# Altium integrated library TI Amplifiers and Linear Special Function Amplifier.IntLib: 708 symbols (part 29 of 47)
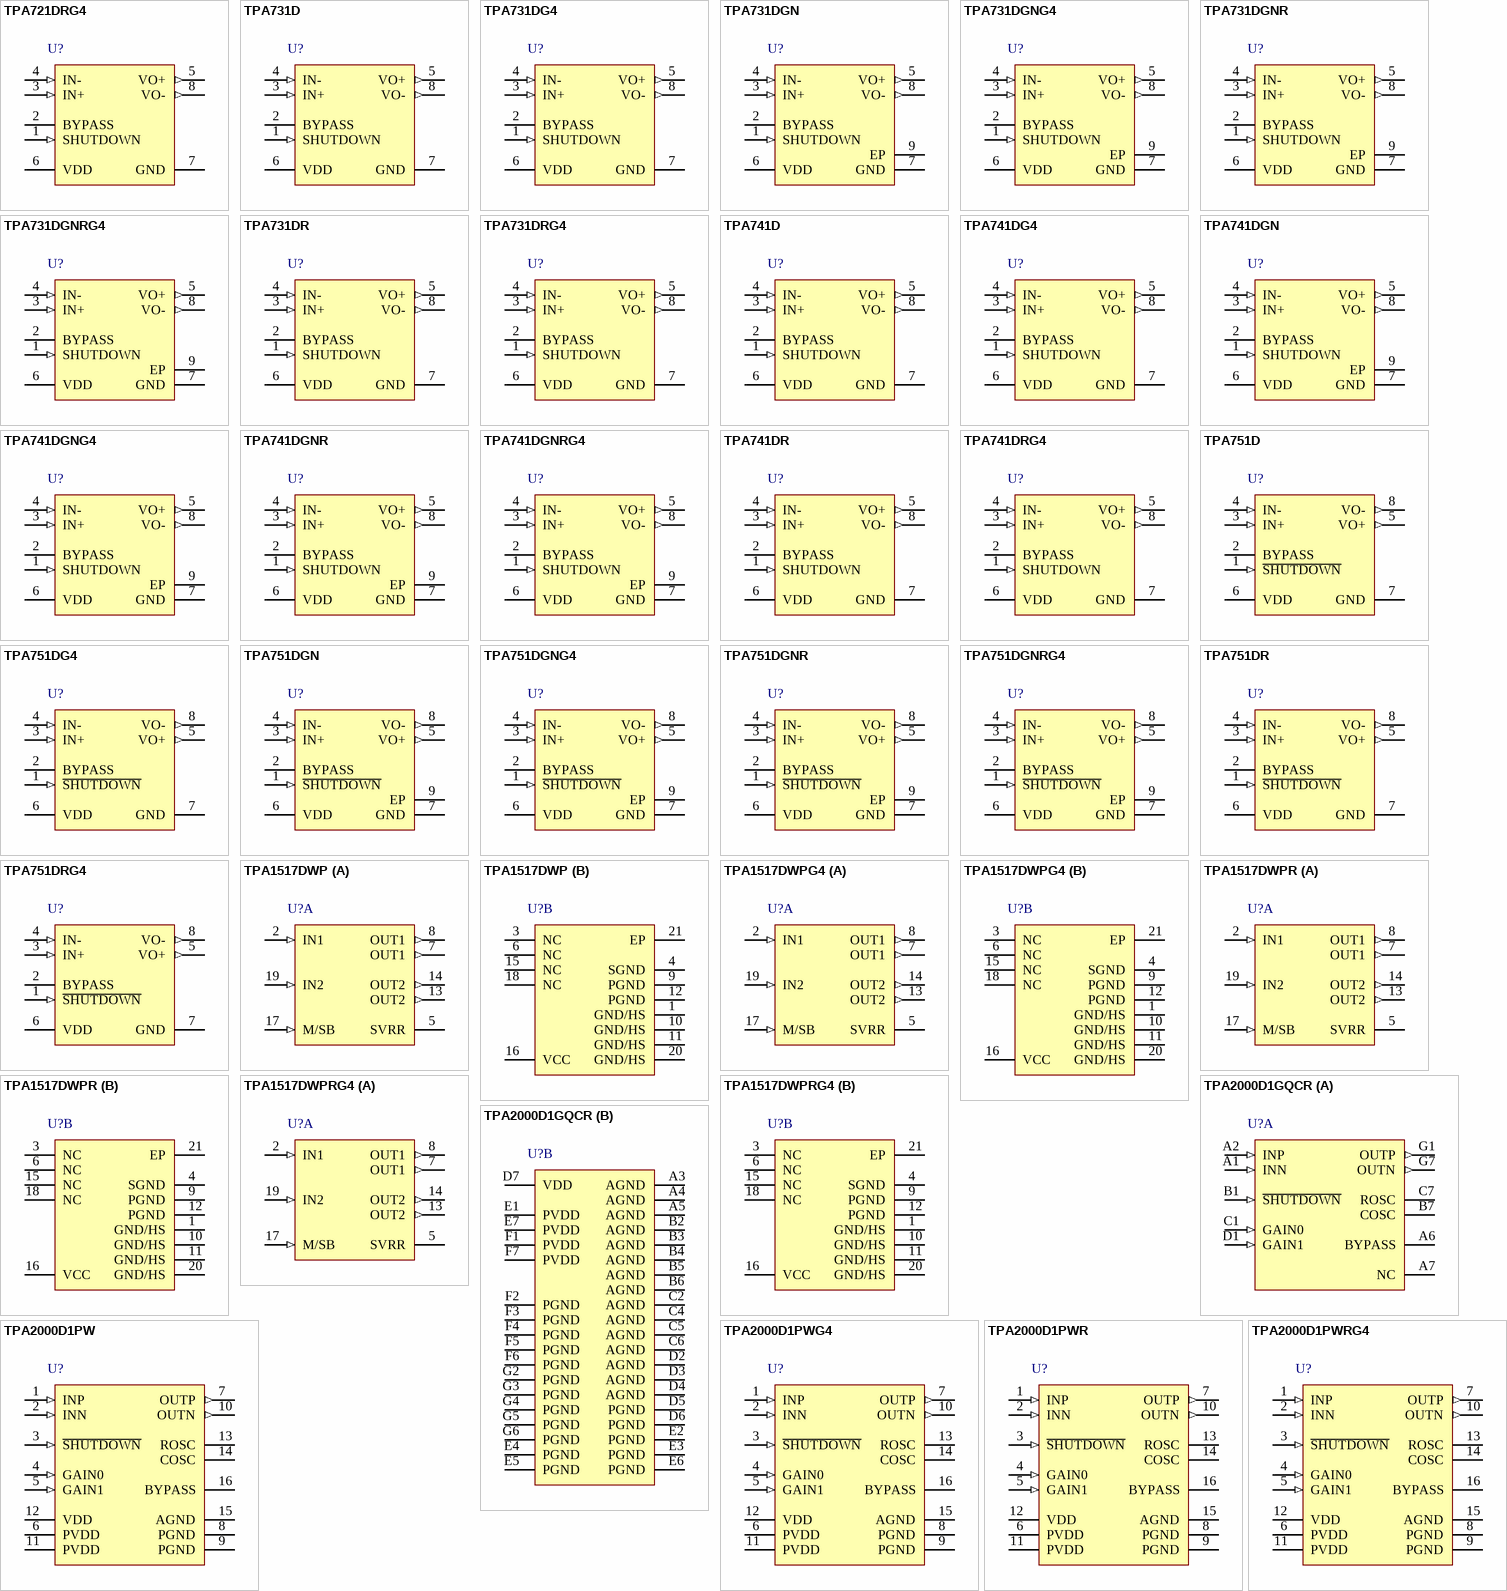
[diagram p67: symbols TPA721DRG4 to TPA2000D1PWRG4]

## TPA731DG4
designator U?
700-mW Mono, Differential Input, Class-AB Audio Amplifier with Active High Shutdown, -40 to 85 degC, 8-pin SOIC (D8), Green (RoHS & no Sb/Br); Manufacturer: Texas Instruments; PartNumber: TPA731DG4; Output Power(W): 0.25; PSRR(dB): 85; SubFamily: Dynamic Speaker; Supply Max(Max)(Volt): 5.5; Supply Min(Min)(Volt): 2.5; DatasheetVersion: SLOS315B; PackageVersion: 4040047-3/M, 06/2011; PackageReference: D8; PackageDescription: 8-Pin Plastic Small Outline, Body 4.9 x 3.9 mm, Pitch 1.27 mm; Supplier 1: Digi-Key; Supplier Part Number 1: TPA731DG4-ND; Supplier 2: Mouser; Supplier Part Number 2: 595-TPA731DG4; Eco-Plan: Green (RoHS & no Sb/Br); Speaker Amp Type: Class-AB; Speaker Channels: Mono; Mounting Technology: Surface Mount; Code_JEDEC: MS-012; ComponentLink1Description: Manufacturer URL; ComponentLink1URL: http://www.ti.com/; ComponentLink2Description: Datasheet; ComponentLink2URL: http://www.ti.com/general/docs/lit/getliterature.tsp?genericPartNumber=TPA731&fileType=pdf; ComponentLink3Description: Package Specification; ComponentLink3URL: http://www.ti.com/litv/pdf/msoi002j
footprint TI-D8_N (SOIC, 8-Leads, Body 5x4mm, Pitch 1.27mm, IPC Medium Density)
footprint TI-D8_L (SOIC, 8-Leads, Body 5x4mm, Pitch 1.27mm, IPC High Density)
footprint TI-D8_M (SOIC, 8-Leads, Body 5x4mm, Pitch 1.27mm, IPC Low Density)
pins: 1 SHUTDOWN (in) "SHUTDOWN places the entire device in shutdown mode when held high.", 2 BYPASS "BYPASS is the tap to the voltage divider for internal mid-supply bias. This terminal should be connected to a 0.1-uF to 2.2-uF capacitor when used as an audio amplifier.", 3 IN+ (in) "IN+ is the noninverting input. IN+ is typically tied to the BYPASS terminal.", 4 IN- (in) "IN- is the inverting input. IN- is typically used as the audio input terminal.", 5 VO+ (out) "VO+ is the positive BTL output.", 6 VDD (power) "VDD is the supply voltage terminal.", 7 GND (power) "GND is the ground connection.", 8 VO- (out) "VO- is the negative BTL output."

## TPA731DGN
designator U?
700-mW Mono, Differential Input, Class-AB Audio Amplifier with Active High Shutdown, -40 to 85 degC, 8-pin SOP (DGN8), Green (RoHS & no Sb/Br); Manufacturer: Texas Instruments; PartNumber: TPA731DGN; Output Power(W): 0.25; PSRR(dB): 85; SubFamily: Dynamic Speaker; Supply Max(Max)(Volt): 5.5; Supply Min(Min)(Volt): 2.5; DatasheetVersion: SLOS315B; PackageVersion: 4073271/F, 05/2011; PackageReference: DGN8-1760X1425TP; PackageDescription: 8-Pin Plastic Small Outline, Body 3 x 3 mm, Pitch 0.65 mm; Supplier 1: Digi-Key; Supplier Part Number 1: TPA731DGN-ND; Supplier 2: Mouser; Supplier Part Number 2: 595-TPA731DGN; Eco-Plan: Green (RoHS & no Sb/Br); Speaker Amp Type: Class-AB; Speaker Channels: Mono; Mounting Technology: Surface Mount; Code_JEDEC: MO-187; ComponentLink1Description: Manufacturer URL; ComponentLink1URL: http://www.ti.com/; ComponentLink2Description: Datasheet; ComponentLink2URL: http://www.ti.com/general/docs/lit/getliterature.tsp?genericPartNumber=TPA731&fileType=pdf; ComponentLink3Description: Package Specification; ComponentLink3URL: http://www.ti.com/litv/pdf/mpds046e
footprint TI-DGN8-1760X1425TP_N (SOP, 8-Leads, Body 3.1x3.1mm, Pitch 0.65mm, Thermal Pad 1.89x1.57mm, IPC Medium Density)
footprint TI-DGN8-1760X1425TP_L (SOP, 8-Leads, Body 3.1x3.1mm, Pitch 0.65mm, Thermal Pad 1.89x1.57mm, IPC High Density)
footprint TI-DGN8-1760X1425TP_M (SOP, 8-Leads, Body 3.1x3.1mm, Pitch 0.65mm, Thermal Pad 1.89x1.57mm, IPC Low Density)
pins: 1 SHUTDOWN (in) "SHUTDOWN places the entire device in shutdown mode when held high.", 2 BYPASS "BYPASS is the tap to the voltage divider for internal mid-supply bias.", 3 IN+ (in) "IN+ is the noninverting input. IN+ is typically tied to the BYPASS terminal.", 4 IN- (in) "IN- is the inverting input. IN- is typically used as the audio input terminal.", 5 VO+ (out) "VO+ is the positive BTL output.", 6 VDD (power) "VDD is the supply voltage terminal.", 7 GND (power) "GND is the ground connection.", 8 VO- (out) "VO- is the negative BTL output.", 9 EP

## TPA731DGNG4
designator U?
700-mW Mono, Differential Input, Class-AB Audio Amplifier with Active High Shutdown, -40 to 85 degC, 8-pin SOP (DGN8), Green (RoHS & no Sb/Br); Manufacturer: Texas Instruments; PartNumber: TPA731DGNG4; Output Power(W): 0.25; PSRR(dB): 85; SubFamily: Dynamic Speaker; Supply Max(Max)(Volt): 5.5; Supply Min(Min)(Volt): 2.5; DatasheetVersion: SLOS315B; PackageVersion: 4073271/F, 05/2011; PackageReference: DGN8-1760X1425TP; PackageDescription: 8-Pin Plastic Small Outline, Body 3 x 3 mm, Pitch 0.65 mm; Supplier 1: Digi-Key; Supplier Part Number 1: TPA731DGNG4-ND; Supplier 2: Mouser; Supplier Part Number 2: 595-TPA731DGNG4; Eco-Plan: Green (RoHS & no Sb/Br); Speaker Amp Type: Class-AB; Speaker Channels: Mono; Mounting Technology: Surface Mount; Code_JEDEC: MO-187; ComponentLink1Description: Manufacturer URL; ComponentLink1URL: http://www.ti.com/; ComponentLink2Description: Datasheet; ComponentLink2URL: http://www.ti.com/general/docs/lit/getliterature.tsp?genericPartNumber=TPA731&fileType=pdf; ComponentLink3Description: Package Specification; ComponentLink3URL: http://www.ti.com/litv/pdf/mpds046e
footprint TI-DGN8-1760X1425TP_N (SOP, 8-Leads, Body 3.1x3.1mm, Pitch 0.65mm, Thermal Pad 1.89x1.57mm, IPC Medium Density)
footprint TI-DGN8-1760X1425TP_L (SOP, 8-Leads, Body 3.1x3.1mm, Pitch 0.65mm, Thermal Pad 1.89x1.57mm, IPC High Density)
footprint TI-DGN8-1760X1425TP_M (SOP, 8-Leads, Body 3.1x3.1mm, Pitch 0.65mm, Thermal Pad 1.89x1.57mm, IPC Low Density)
pins: 1 SHUTDOWN (in) "SHUTDOWN places the entire device in shutdown mode when held high.", 2 BYPASS "BYPASS is the tap to the voltage divider for internal mid-supply bias.", 3 IN+ (in) "IN+ is the noninverting input. IN+ is typically tied to the BYPASS terminal.", 4 IN- (in) "IN- is the inverting input. IN- is typically used as the audio input terminal.", 5 VO+ (out) "VO+ is the positive BTL output.", 6 VDD (power) "VDD is the supply voltage terminal.", 7 GND (power) "GND is the ground connection.", 8 VO- (out) "VO- is the negative BTL output.", 9 EP

## TPA731DGNR
designator U?
700-mW Mono, Differential Input, Class-AB Audio Amplifier with Active High Shutdown, -40 to 85 degC, 8-pin SOP (DGN8), Green (RoHS & no Sb/Br); Manufacturer: Texas Instruments; PartNumber: TPA731DGNR; Output Power(W): 0.25; PSRR(dB): 85; SubFamily: Dynamic Speaker; Supply Max(Max)(Volt): 5.5; Supply Min(Min)(Volt): 2.5; DatasheetVersion: SLOS315B; PackageVersion: 4073271/F, 05/2011; PackageReference: DGN8-1760X1425TP; PackageDescription: 8-Pin Plastic Small Outline, Body 3 x 3 mm, Pitch 0.65 mm; Supplier 1: Digi-Key; Supplier Part Number 1: 296-7026-2-ND; Supplier 2: Digi-Key; Supplier Part Number 2: 296-7026-1-ND; Supplier 3: Digi-Key; Supplier Part Number 3: 296-7026-6-ND; Supplier 4: Mouser; Supplier Part Number 4: 595-TPA731DGNR; Eco-Plan: Green (RoHS & no Sb/Br); Speaker Amp Type: Class-AB; Speaker Channels: Mono; Mounting Technology: Surface Mount; Code_JEDEC: MO-187; ComponentLink1Description: Manufacturer URL; ComponentLink1URL: http://www.ti.com/; ComponentLink2Description: Datasheet; ComponentLink2URL: http://www.ti.com/general/docs/lit/getliterature.tsp?genericPartNumber=TPA731&fileType=pdf; ComponentLink3Description: Package Specification; ComponentLink3URL: http://www.ti.com/litv/pdf/mpds046e
footprint TI-DGN8-1760X1425TP_N (SOP, 8-Leads, Body 3.1x3.1mm, Pitch 0.65mm, Thermal Pad 1.89x1.57mm, IPC Medium Density)
footprint TI-DGN8-1760X1425TP_L (SOP, 8-Leads, Body 3.1x3.1mm, Pitch 0.65mm, Thermal Pad 1.89x1.57mm, IPC High Density)
footprint TI-DGN8-1760X1425TP_M (SOP, 8-Leads, Body 3.1x3.1mm, Pitch 0.65mm, Thermal Pad 1.89x1.57mm, IPC Low Density)
pins: 1 SHUTDOWN (in) "SHUTDOWN places the entire device in shutdown mode when held high.", 2 BYPASS "BYPASS is the tap to the voltage divider for internal mid-supply bias.", 3 IN+ (in) "IN+ is the noninverting input. IN+ is typically tied to the BYPASS terminal.", 4 IN- (in) "IN- is the inverting input. IN- is typically used as the audio input terminal.", 5 VO+ (out) "VO+ is the positive BTL output.", 6 VDD (power) "VDD is the supply voltage terminal.", 7 GND (power) "GND is the ground connection.", 8 VO- (out) "VO- is the negative BTL output.", 9 EP

## TPA731DGNRG4
designator U?
700-mW Mono, Differential Input, Class-AB Audio Amplifier with Active High Shutdown, -40 to 85 degC, 8-pin SOP (DGN8), Green (RoHS & no Sb/Br); Manufacturer: Texas Instruments; PartNumber: TPA731DGNRG4; Output Power(W): 0.25; PSRR(dB): 85; SubFamily: Dynamic Speaker; Supply Max(Max)(Volt): 5.5; Supply Min(Min)(Volt): 2.5; DatasheetVersion: SLOS315B; PackageVersion: 4073271/F, 05/2011; PackageReference: DGN8-1760X1425TP; PackageDescription: 8-Pin Plastic Small Outline, Body 3 x 3 mm, Pitch 0.65 mm; Supplier 1: Digi-Key; Supplier Part Number 1: TPA731DGNRG4-ND; Supplier 2: Mouser; Supplier Part Number 2: 595-TPA731DGNRG4; Eco-Plan: Green (RoHS & no Sb/Br); Speaker Amp Type: Class-AB; Speaker Channels: Mono; Mounting Technology: Surface Mount; Code_JEDEC: MO-187; ComponentLink1Description: Manufacturer URL; ComponentLink1URL: http://www.ti.com/; ComponentLink2Description: Datasheet; ComponentLink2URL: http://www.ti.com/general/docs/lit/getliterature.tsp?genericPartNumber=TPA731&fileType=pdf; ComponentLink3Description: Package Specification; ComponentLink3URL: http://www.ti.com/litv/pdf/mpds046e
footprint TI-DGN8-1760X1425TP_N (SOP, 8-Leads, Body 3.1x3.1mm, Pitch 0.65mm, Thermal Pad 1.89x1.57mm, IPC Medium Density)
footprint TI-DGN8-1760X1425TP_L (SOP, 8-Leads, Body 3.1x3.1mm, Pitch 0.65mm, Thermal Pad 1.89x1.57mm, IPC High Density)
footprint TI-DGN8-1760X1425TP_M (SOP, 8-Leads, Body 3.1x3.1mm, Pitch 0.65mm, Thermal Pad 1.89x1.57mm, IPC Low Density)
pins: 1 SHUTDOWN (in) "SHUTDOWN places the entire device in shutdown mode when held high.", 2 BYPASS "BYPASS is the tap to the voltage divider for internal mid-supply bias.", 3 IN+ (in) "IN+ is the noninverting input. IN+ is typically tied to the BYPASS terminal.", 4 IN- (in) "IN- is the inverting input. IN- is typically used as the audio input terminal.", 5 VO+ (out) "VO+ is the positive BTL output.", 6 VDD (power) "VDD is the supply voltage terminal.", 7 GND (power) "GND is the ground connection.", 8 VO- (out) "VO- is the negative BTL output.", 9 EP

## TPA731DR
designator U?
700-mW Mono, Differential Input, Class-AB Audio Amplifier with Active High Shutdown, -40 to 85 degC, 8-pin SOIC (D8), Green (RoHS & no Sb/Br); Manufacturer: Texas Instruments; PartNumber: TPA731DR; Output Power(W): 0.25; PSRR(dB): 85; SubFamily: Dynamic Speaker; Supply Max(Max)(Volt): 5.5; Supply Min(Min)(Volt): 2.5; DatasheetVersion: SLOS315B; PackageVersion: 4040047-3/M, 06/2011; PackageReference: D8; PackageDescription: 8-Pin Plastic Small Outline, Body 4.9 x 3.9 mm, Pitch 1.27 mm; Supplier 1: Digi-Key; Supplier Part Number 1: TPA731DR-ND; Supplier 2: Mouser; Supplier Part Number 2: 595-TPA731DR; Eco-Plan: Green (RoHS & no Sb/Br); Speaker Amp Type: Class-AB; Speaker Channels: Mono; Mounting Technology: Surface Mount; Code_JEDEC: MS-012; ComponentLink1Description: Manufacturer URL; ComponentLink1URL: http://www.ti.com/; ComponentLink2Description: Datasheet; ComponentLink2URL: http://www.ti.com/general/docs/lit/getliterature.tsp?genericPartNumber=TPA731&fileType=pdf; ComponentLink3Description: Package Specification; ComponentLink3URL: http://www.ti.com/litv/pdf/msoi002j
footprint TI-D8_N (SOIC, 8-Leads, Body 5x4mm, Pitch 1.27mm, IPC Medium Density)
footprint TI-D8_L (SOIC, 8-Leads, Body 5x4mm, Pitch 1.27mm, IPC High Density)
footprint TI-D8_M (SOIC, 8-Leads, Body 5x4mm, Pitch 1.27mm, IPC Low Density)
pins: 1 SHUTDOWN (in) "SHUTDOWN places the entire device in shutdown mode when held high.", 2 BYPASS "BYPASS is the tap to the voltage divider for internal mid-supply bias. This terminal should be connected to a 0.1-uF to 2.2-uF capacitor when used as an audio amplifier.", 3 IN+ (in) "IN+ is the noninverting input. IN+ is typically tied to the BYPASS terminal.", 4 IN- (in) "IN- is the inverting input. IN- is typically used as the audio input terminal.", 5 VO+ (out) "VO+ is the positive BTL output.", 6 VDD (power) "VDD is the supply voltage terminal.", 7 GND (power) "GND is the ground connection.", 8 VO- (out) "VO- is the negative BTL output."

## TPA731DRG4
designator U?
700-mW Mono, Differential Input, Class-AB Audio Amplifier with Active High Shutdown, -40 to 85 degC, 8-pin SOIC (D8), Green (RoHS & no Sb/Br); Manufacturer: Texas Instruments; PartNumber: TPA731DRG4; Output Power(W): 0.25; PSRR(dB): 85; SubFamily: Dynamic Speaker; Supply Max(Max)(Volt): 5.5; Supply Min(Min)(Volt): 2.5; DatasheetVersion: SLOS315B; PackageVersion: 4040047-3/M, 06/2011; PackageReference: D8; PackageDescription: 8-Pin Plastic Small Outline, Body 4.9 x 3.9 mm, Pitch 1.27 mm; Supplier 1: Digi-Key; Supplier Part Number 1: TPA731DRG4-ND; Supplier 2: Mouser; Supplier Part Number 2: 595-TPA731DRG4; Eco-Plan: Green (RoHS & no Sb/Br); Speaker Amp Type: Class-AB; Speaker Channels: Mono; Mounting Technology: Surface Mount; Code_JEDEC: MS-012; ComponentLink1Description: Manufacturer URL; ComponentLink1URL: http://www.ti.com/; ComponentLink2Description: Datasheet; ComponentLink2URL: http://www.ti.com/general/docs/lit/getliterature.tsp?genericPartNumber=TPA731&fileType=pdf; ComponentLink3Description: Package Specification; ComponentLink3URL: http://www.ti.com/litv/pdf/msoi002j
footprint TI-D8_N (SOIC, 8-Leads, Body 5x4mm, Pitch 1.27mm, IPC Medium Density)
footprint TI-D8_L (SOIC, 8-Leads, Body 5x4mm, Pitch 1.27mm, IPC High Density)
footprint TI-D8_M (SOIC, 8-Leads, Body 5x4mm, Pitch 1.27mm, IPC Low Density)
pins: 1 SHUTDOWN (in) "SHUTDOWN places the entire device in shutdown mode when held high.", 2 BYPASS "BYPASS is the tap to the voltage divider for internal mid-supply bias. This terminal should be connected to a 0.1-uF to 2.2-uF capacitor when used as an audio amplifier.", 3 IN+ (in) "IN+ is the noninverting input. IN+ is typically tied to the BYPASS terminal.", 4 IN- (in) "IN- is the inverting input. IN- is typically used as the audio input terminal.", 5 VO+ (out) "VO+ is the positive BTL output.", 6 VDD (power) "VDD is the supply voltage terminal.", 7 GND (power) "GND is the ground connection.", 8 VO- (out) "VO- is the negative BTL output."

## TPA741D
designator U?
700-mW Mono, Differential Input, Class-AB Audio Amplifier with Active High Shutdown and Depop, -40 to 85 degC, 8-pin SOIC (D8), Green (RoHS & no Sb/Br); Manufacturer: Texas Instruments; PartNumber: TPA741D; Output Power(W): 0.25; PSRR(dB): 85; SubFamily: Dynamic Speaker; Supply Max(Max)(Volt): 5.5; Supply Min(Min)(Volt): 2.5; DatasheetVersion: SLOS316C; PackageVersion: 4040047-3/M, 06/2011; PackageReference: D8; PackageDescription: 8-Pin Plastic Small Outline, Body 4.9 x 3.9 mm, Pitch 1.27 mm; Supplier 1: Digi-Key; Supplier Part Number 1: 296-7027-5-ND; Supplier 2: Newark; Supplier Part Number 2: 76C9873; Supplier 3: Mouser; Supplier Part Number 3: 595-TPA741D; Eco-Plan: Green (RoHS & no Sb/Br); Speaker Amp Type: Class-AB; Speaker Channels: Mono; Mounting Technology: Surface Mount; Code_JEDEC: MS-012; ComponentLink1Description: Manufacturer URL; ComponentLink1URL: http://www.ti.com/; ComponentLink2Description: Datasheet; ComponentLink2URL: http://www.ti.com/general/docs/lit/getliterature.tsp?genericPartNumber=TPA741&fileType=pdf; ComponentLink3Description: Package Specification; ComponentLink3URL: http://www.ti.com/litv/pdf/msoi002j
footprint TI-D8_N (SOIC, 8-Leads, Body 5x4mm, Pitch 1.27mm, IPC Medium Density)
footprint TI-D8_L (SOIC, 8-Leads, Body 5x4mm, Pitch 1.27mm, IPC High Density)
footprint TI-D8_M (SOIC, 8-Leads, Body 5x4mm, Pitch 1.27mm, IPC Low Density)
pins: 1 SHUTDOWN (in) "SHUTDOWN places the entire device in shutdown mode when held high.", 2 BYPASS "BYPASS is the tap to the voltage divider for internal mid-supply bias. This terminal should be connected to a 0.1-uF to 2.2-uF capacitor when used as an audio amplifier.", 3 IN+ (in) "IN+ is the noninverting input. IN+ is typically tied to the BYPASS terminal.", 4 IN- (in) "IN- is the inverting input. IN- is typically used as the audio input terminal.", 5 VO+ (out) "VO+ is the positive BTL output.", 6 VDD (power) "VDD is the supply voltage terminal.", 7 GND (power) "GND is the ground connection.", 8 VO- (out) "VO- is the negative BTL output."

## TPA741DG4
designator U?
700-mW Mono, Differential Input, Class-AB Audio Amplifier with Active High Shutdown and Depop, -40 to 85 degC, 8-pin SOIC (D8), Green (RoHS & no Sb/Br); Manufacturer: Texas Instruments; PartNumber: TPA741DG4; Output Power(W): 0.25; PSRR(dB): 85; SubFamily: Dynamic Speaker; Supply Max(Max)(Volt): 5.5; Supply Min(Min)(Volt): 2.5; DatasheetVersion: SLOS316C; PackageVersion: 4040047-3/M, 06/2011; PackageReference: D8; PackageDescription: 8-Pin Plastic Small Outline, Body 4.9 x 3.9 mm, Pitch 1.27 mm; Supplier 1: Digi-Key; Supplier Part Number 1: TPA741DG4-ND; Supplier 2: Mouser; Supplier Part Number 2: 595-TPA741DG4; Eco-Plan: Green (RoHS & no Sb/Br); Speaker Amp Type: Class-AB; Speaker Channels: Mono; Mounting Technology: Surface Mount; Code_JEDEC: MS-012; ComponentLink1Description: Manufacturer URL; ComponentLink1URL: http://www.ti.com/; ComponentLink2Description: Datasheet; ComponentLink2URL: http://www.ti.com/general/docs/lit/getliterature.tsp?genericPartNumber=TPA741&fileType=pdf; ComponentLink3Description: Package Specification; ComponentLink3URL: http://www.ti.com/litv/pdf/msoi002j
footprint TI-D8_N (SOIC, 8-Leads, Body 5x4mm, Pitch 1.27mm, IPC Medium Density)
footprint TI-D8_L (SOIC, 8-Leads, Body 5x4mm, Pitch 1.27mm, IPC High Density)
footprint TI-D8_M (SOIC, 8-Leads, Body 5x4mm, Pitch 1.27mm, IPC Low Density)
pins: 1 SHUTDOWN (in) "SHUTDOWN places the entire device in shutdown mode when held high.", 2 BYPASS "BYPASS is the tap to the voltage divider for internal mid-supply bias. This terminal should be connected to a 0.1-uF to 2.2-uF capacitor when used as an audio amplifier.", 3 IN+ (in) "IN+ is the noninverting input. IN+ is typically tied to the BYPASS terminal.", 4 IN- (in) "IN- is the inverting input. IN- is typically used as the audio input terminal.", 5 VO+ (out) "VO+ is the positive BTL output.", 6 VDD (power) "VDD is the supply voltage terminal.", 7 GND (power) "GND is the ground connection.", 8 VO- (out) "VO- is the negative BTL output."

## TPA741DGN
designator U?
700-mW Mono, Differential Input, Class-AB Audio Amplifier with Active High Shutdown and Depop, -40 to 85 degC, 8-pin SOP (DGN8), Green (RoHS & no Sb/Br); Manufacturer: Texas Instruments; PartNumber: TPA741DGN; Output Power(W): 0.25; PSRR(dB): 85; SubFamily: Dynamic Speaker; Supply Max(Max)(Volt): 5.5; Supply Min(Min)(Volt): 2.5; DatasheetVersion: SLOS316C; PackageVersion: 4073271/F, 05/2011; PackageReference: DGN8-1760X1425TP; PackageDescription: 8-Pin Plastic Small Outline, Body 3 x 3 mm, Pitch 0.65 mm; Supplier 1: Digi-Key; Supplier Part Number 1: TPA741DGN-ND; Supplier 2: Farnell; Supplier Part Number 2: 1755381; Supplier 3: Newark; Supplier Part Number 3: 34R9152; Supplier 4: Mouser; Supplier Part Number 4: 595-TPA741DGN; Eco-Plan: Green (RoHS & no Sb/Br); Speaker Amp Type: Class-AB; Speaker Channels: Mono; Mounting Technology: Surface Mount; Code_JEDEC: MO-187; ComponentLink1Description: Manufacturer URL; ComponentLink1URL: http://www.ti.com/; ComponentLink2Description: Datasheet; ComponentLink2URL: http://www.ti.com/general/docs/lit/getliterature.tsp?genericPartNumber=TPA741&fileType=pdf; ComponentLink3Description: Package Specification; ComponentLink3URL: http://www.ti.com/litv/pdf/mpds046e
footprint TI-DGN8-1760X1425TP_N (SOP, 8-Leads, Body 3.1x3.1mm, Pitch 0.65mm, Thermal Pad 1.89x1.57mm, IPC Medium Density)
footprint TI-DGN8-1760X1425TP_L (SOP, 8-Leads, Body 3.1x3.1mm, Pitch 0.65mm, Thermal Pad 1.89x1.57mm, IPC High Density)
footprint TI-DGN8-1760X1425TP_M (SOP, 8-Leads, Body 3.1x3.1mm, Pitch 0.65mm, Thermal Pad 1.89x1.57mm, IPC Low Density)
pins: 1 SHUTDOWN (in) "SHUTDOWN places the entire device in shutdown mode when held high.", 2 BYPASS "BYPASS is the tap to the voltage divider for internal mid-supply bias.", 3 IN+ (in) "IN+ is the noninverting input. IN+ is typically tied to the BYPASS terminal.", 4 IN- (in) "IN- is the inverting input. IN- is typically used as the audio input terminal.", 5 VO+ (out) "VO+ is the positive BTL output.", 6 VDD (power) "VDD is the supply voltage terminal.", 7 GND (power) "GND is the ground connection.", 8 VO- (out) "VO- is the negative BTL output.", 9 EP

## TPA741DGNG4
designator U?
700-mW Mono, Differential Input, Class-AB Audio Amplifier with Active High Shutdown and Depop, -40 to 85 degC, 8-pin SOP (DGN8), Green (RoHS & no Sb/Br); Manufacturer: Texas Instruments; PartNumber: TPA741DGNG4; Output Power(W): 0.25; PSRR(dB): 85; SubFamily: Dynamic Speaker; Supply Max(Max)(Volt): 5.5; Supply Min(Min)(Volt): 2.5; DatasheetVersion: SLOS316C; PackageVersion: 4073271/F, 05/2011; PackageReference: DGN8-1760X1425TP; PackageDescription: 8-Pin Plastic Small Outline, Body 3 x 3 mm, Pitch 0.65 mm; Supplier 1: Digi-Key; Supplier Part Number 1: TPA741DGNG4-ND; Supplier 2: Mouser; Supplier Part Number 2: 595-TPA741DGNG4; Eco-Plan: Green (RoHS & no Sb/Br); Speaker Amp Type: Class-AB; Speaker Channels: Mono; Mounting Technology: Surface Mount; Code_JEDEC: MO-187; ComponentLink1Description: Manufacturer URL; ComponentLink1URL: http://www.ti.com/; ComponentLink2Description: Datasheet; ComponentLink2URL: http://www.ti.com/general/docs/lit/getliterature.tsp?genericPartNumber=TPA741&fileType=pdf; ComponentLink3Description: Package Specification; ComponentLink3URL: http://www.ti.com/litv/pdf/mpds046e
footprint TI-DGN8-1760X1425TP_N (SOP, 8-Leads, Body 3.1x3.1mm, Pitch 0.65mm, Thermal Pad 1.89x1.57mm, IPC Medium Density)
footprint TI-DGN8-1760X1425TP_L (SOP, 8-Leads, Body 3.1x3.1mm, Pitch 0.65mm, Thermal Pad 1.89x1.57mm, IPC High Density)
footprint TI-DGN8-1760X1425TP_M (SOP, 8-Leads, Body 3.1x3.1mm, Pitch 0.65mm, Thermal Pad 1.89x1.57mm, IPC Low Density)
pins: 1 SHUTDOWN (in) "SHUTDOWN places the entire device in shutdown mode when held high.", 2 BYPASS "BYPASS is the tap to the voltage divider for internal mid-supply bias.", 3 IN+ (in) "IN+ is the noninverting input. IN+ is typically tied to the BYPASS terminal.", 4 IN- (in) "IN- is the inverting input. IN- is typically used as the audio input terminal.", 5 VO+ (out) "VO+ is the positive BTL output.", 6 VDD (power) "VDD is the supply voltage terminal.", 7 GND (power) "GND is the ground connection.", 8 VO- (out) "VO- is the negative BTL output.", 9 EP

## TPA741DGNR
designator U?
700-mW Mono, Differential Input, Class-AB Audio Amplifier with Active High Shutdown and Depop, -40 to 85 degC, 8-pin SOP (DGN8), Green (RoHS & no Sb/Br); Manufacturer: Texas Instruments; PartNumber: TPA741DGNR; Output Power(W): 0.25; PSRR(dB): 85; SubFamily: Dynamic Speaker; Supply Max(Max)(Volt): 5.5; Supply Min(Min)(Volt): 2.5; DatasheetVersion: SLOS316C; PackageVersion: 4073271/F, 05/2011; PackageReference: DGN8-1760X1425TP; PackageDescription: 8-Pin Plastic Small Outline, Body 3 x 3 mm, Pitch 0.65 mm; Supplier 1: Digi-Key; Supplier Part Number 1: 296-7028-2-ND; Supplier 2: Digi-Key; Supplier Part Number 2: 296-7028-1-ND; Supplier 3: Digi-Key; Supplier Part Number 3: 296-7028-6-ND; Supplier 4: Mouser; Supplier Part Number 4: 595-TPA741DGNR; Eco-Plan: Green (RoHS & no Sb/Br); Speaker Amp Type: Class-AB; Speaker Channels: Mono; Mounting Technology: Surface Mount; Code_JEDEC: MO-187; ComponentLink1Description: Manufacturer URL; ComponentLink1URL: http://www.ti.com/; ComponentLink2Description: Datasheet; ComponentLink2URL: http://www.ti.com/general/docs/lit/getliterature.tsp?genericPartNumber=TPA741&fileType=pdf; ComponentLink3Description: Package Specification; ComponentLink3URL: http://www.ti.com/litv/pdf/mpds046e
footprint TI-DGN8-1760X1425TP_N (SOP, 8-Leads, Body 3.1x3.1mm, Pitch 0.65mm, Thermal Pad 1.89x1.57mm, IPC Medium Density)
footprint TI-DGN8-1760X1425TP_L (SOP, 8-Leads, Body 3.1x3.1mm, Pitch 0.65mm, Thermal Pad 1.89x1.57mm, IPC High Density)
footprint TI-DGN8-1760X1425TP_M (SOP, 8-Leads, Body 3.1x3.1mm, Pitch 0.65mm, Thermal Pad 1.89x1.57mm, IPC Low Density)
pins: 1 SHUTDOWN (in) "SHUTDOWN places the entire device in shutdown mode when held high.", 2 BYPASS "BYPASS is the tap to the voltage divider for internal mid-supply bias.", 3 IN+ (in) "IN+ is the noninverting input. IN+ is typically tied to the BYPASS terminal.", 4 IN- (in) "IN- is the inverting input. IN- is typically used as the audio input terminal.", 5 VO+ (out) "VO+ is the positive BTL output.", 6 VDD (power) "VDD is the supply voltage terminal.", 7 GND (power) "GND is the ground connection.", 8 VO- (out) "VO- is the negative BTL output.", 9 EP

## TPA741DGNRG4
designator U?
700-mW Mono, Differential Input, Class-AB Audio Amplifier with Active High Shutdown and Depop, -40 to 85 degC, 8-pin SOP (DGN8), Green (RoHS & no Sb/Br); Manufacturer: Texas Instruments; PartNumber: TPA741DGNRG4; Output Power(W): 0.25; PSRR(dB): 85; SubFamily: Dynamic Speaker; Supply Max(Max)(Volt): 5.5; Supply Min(Min)(Volt): 2.5; DatasheetVersion: SLOS316C; PackageVersion: 4073271/F, 05/2011; PackageReference: DGN8-1760X1425TP; PackageDescription: 8-Pin Plastic Small Outline, Body 3 x 3 mm, Pitch 0.65 mm; Supplier 1: Digi-Key; Supplier Part Number 1: TPA741DGNRG4-ND; Supplier 2: Mouser; Supplier Part Number 2: 595-TPA741DGNRG4; Eco-Plan: Green (RoHS & no Sb/Br); Speaker Amp Type: Class-AB; Speaker Channels: Mono; Mounting Technology: Surface Mount; Code_JEDEC: MO-187; ComponentLink1Description: Manufacturer URL; ComponentLink1URL: http://www.ti.com/; ComponentLink2Description: Datasheet; ComponentLink2URL: http://www.ti.com/general/docs/lit/getliterature.tsp?genericPartNumber=TPA741&fileType=pdf; ComponentLink3Description: Package Specification; ComponentLink3URL: http://www.ti.com/litv/pdf/mpds046e
footprint TI-DGN8-1760X1425TP_N (SOP, 8-Leads, Body 3.1x3.1mm, Pitch 0.65mm, Thermal Pad 1.89x1.57mm, IPC Medium Density)
footprint TI-DGN8-1760X1425TP_L (SOP, 8-Leads, Body 3.1x3.1mm, Pitch 0.65mm, Thermal Pad 1.89x1.57mm, IPC High Density)
footprint TI-DGN8-1760X1425TP_M (SOP, 8-Leads, Body 3.1x3.1mm, Pitch 0.65mm, Thermal Pad 1.89x1.57mm, IPC Low Density)
pins: 1 SHUTDOWN (in) "SHUTDOWN places the entire device in shutdown mode when held high.", 2 BYPASS "BYPASS is the tap to the voltage divider for internal mid-supply bias.", 3 IN+ (in) "IN+ is the noninverting input. IN+ is typically tied to the BYPASS terminal.", 4 IN- (in) "IN- is the inverting input. IN- is typically used as the audio input terminal.", 5 VO+ (out) "VO+ is the positive BTL output.", 6 VDD (power) "VDD is the supply voltage terminal.", 7 GND (power) "GND is the ground connection.", 8 VO- (out) "VO- is the negative BTL output.", 9 EP

## TPA741DR
designator U?
700-mW Mono, Differential Input, Class-AB Audio Amplifier with Active High Shutdown and Depop, -40 to 85 degC, 8-pin SOIC (D8), Green (RoHS & no Sb/Br); Manufacturer: Texas Instruments; PartNumber: TPA741DR; Output Power(W): 0.25; PSRR(dB): 85; SubFamily: Dynamic Speaker; Supply Max(Max)(Volt): 5.5; Supply Min(Min)(Volt): 2.5; DatasheetVersion: SLOS316C; PackageVersion: 4040047-3/M, 06/2011; PackageReference: D8; PackageDescription: 8-Pin Plastic Small Outline, Body 4.9 x 3.9 mm, Pitch 1.27 mm; Supplier 1: Digi-Key; Supplier Part Number 1: TPA741DR-ND; Supplier 2: Mouser; Supplier Part Number 2: 595-TPA741DR; Eco-Plan: Green (RoHS & no Sb/Br); Speaker Amp Type: Class-AB; Speaker Channels: Mono; Mounting Technology: Surface Mount; Code_JEDEC: MS-012; ComponentLink1Description: Manufacturer URL; ComponentLink1URL: http://www.ti.com/; ComponentLink2Description: Datasheet; ComponentLink2URL: http://www.ti.com/general/docs/lit/getliterature.tsp?genericPartNumber=TPA741&fileType=pdf; ComponentLink3Description: Package Specification; ComponentLink3URL: http://www.ti.com/litv/pdf/msoi002j
footprint TI-D8_N (SOIC, 8-Leads, Body 5x4mm, Pitch 1.27mm, IPC Medium Density)
footprint TI-D8_L (SOIC, 8-Leads, Body 5x4mm, Pitch 1.27mm, IPC High Density)
footprint TI-D8_M (SOIC, 8-Leads, Body 5x4mm, Pitch 1.27mm, IPC Low Density)
pins: 1 SHUTDOWN (in) "SHUTDOWN places the entire device in shutdown mode when held high.", 2 BYPASS "BYPASS is the tap to the voltage divider for internal mid-supply bias. This terminal should be connected to a 0.1-uF to 2.2-uF capacitor when used as an audio amplifier.", 3 IN+ (in) "IN+ is the noninverting input. IN+ is typically tied to the BYPASS terminal.", 4 IN- (in) "IN- is the inverting input. IN- is typically used as the audio input terminal.", 5 VO+ (out) "VO+ is the positive BTL output.", 6 VDD (power) "VDD is the supply voltage terminal.", 7 GND (power) "GND is the ground connection.", 8 VO- (out) "VO- is the negative BTL output."

## TPA741DRG4
designator U?
700-mW Mono, Differential Input, Class-AB Audio Amplifier with Active High Shutdown and Depop, -40 to 85 degC, 8-pin SOIC (D8), Green (RoHS & no Sb/Br); Manufacturer: Texas Instruments; PartNumber: TPA741DRG4; Output Power(W): 0.25; PSRR(dB): 85; SubFamily: Dynamic Speaker; Supply Max(Max)(Volt): 5.5; Supply Min(Min)(Volt): 2.5; DatasheetVersion: SLOS316C; PackageVersion: 4040047-3/M, 06/2011; PackageReference: D8; PackageDescription: 8-Pin Plastic Small Outline, Body 4.9 x 3.9 mm, Pitch 1.27 mm; Supplier 1: Digi-Key; Supplier Part Number 1: TPA741DRG4-ND; Supplier 2: Mouser; Supplier Part Number 2: 595-TPA741DRG4; Eco-Plan: Green (RoHS & no Sb/Br); Speaker Amp Type: Class-AB; Speaker Channels: Mono; Mounting Technology: Surface Mount; Code_JEDEC: MS-012; ComponentLink1Description: Manufacturer URL; ComponentLink1URL: http://www.ti.com/; ComponentLink2Description: Datasheet; ComponentLink2URL: http://www.ti.com/general/docs/lit/getliterature.tsp?genericPartNumber=TPA741&fileType=pdf; ComponentLink3Description: Package Specification; ComponentLink3URL: http://www.ti.com/litv/pdf/msoi002j
footprint TI-D8_N (SOIC, 8-Leads, Body 5x4mm, Pitch 1.27mm, IPC Medium Density)
footprint TI-D8_L (SOIC, 8-Leads, Body 5x4mm, Pitch 1.27mm, IPC High Density)
footprint TI-D8_M (SOIC, 8-Leads, Body 5x4mm, Pitch 1.27mm, IPC Low Density)
pins: 1 SHUTDOWN (in) "SHUTDOWN places the entire device in shutdown mode when held high.", 2 BYPASS "BYPASS is the tap to the voltage divider for internal mid-supply bias. This terminal should be connected to a 0.1-uF to 2.2-uF capacitor when used as an audio amplifier.", 3 IN+ (in) "IN+ is the noninverting input. IN+ is typically tied to the BYPASS terminal.", 4 IN- (in) "IN- is the inverting input. IN- is typically used as the audio input terminal.", 5 VO+ (out) "VO+ is the positive BTL output.", 6 VDD (power) "VDD is the supply voltage terminal.", 7 GND (power) "GND is the ground connection.", 8 VO- (out) "VO- is the negative BTL output."

## TPA751D
designator U?
700-mW Mono, Differential Input, Class-AB Audio Amplifier with Active Low Shutdown, -40 to 85 degC, 8-pin SOIC (D8), Green (RoHS & no Sb/Br); Manufacturer: Texas Instruments; PartNumber: TPA751D; Output Power(W): 0.25; PSRR(dB): 85; SubFamily: Dynamic Speaker; Supply Max(Max)(Volt): 5.5; Supply Min(Min)(Volt): 2.5; DatasheetVersion: SLOS336C; PackageVersion: 4040047-3/M, 06/2011; PackageReference: D8; PackageDescription: 8-Pin Plastic Small Outline, Body 4.9 x 3.9 mm, Pitch 1.27 mm; Supplier 1: Digi-Key; Supplier Part Number 1: 296-10855-5-ND; Supplier 2: Newark; Supplier Part Number 2: 76C9878; Supplier 3: Mouser; Supplier Part Number 3: 595-TPA751D; Eco-Plan: Green (RoHS & no Sb/Br); Speaker Amp Type: Class-AB; Speaker Channels: Mono; Mounting Technology: Surface Mount; Code_JEDEC: MS-012; ComponentLink1Description: Manufacturer URL; ComponentLink1URL: http://www.ti.com/; ComponentLink2Description: Datasheet; ComponentLink2URL: http://www.ti.com/general/docs/lit/getliterature.tsp?genericPartNumber=TPA751&fileType=pdf; ComponentLink3Description: Package Specification; ComponentLink3URL: http://www.ti.com/litv/pdf/msoi002j
footprint TI-D8_N (SOIC, 8-Leads, Body 5x4mm, Pitch 1.27mm, IPC Medium Density)
footprint TI-D8_L (SOIC, 8-Leads, Body 5x4mm, Pitch 1.27mm, IPC High Density)
footprint TI-D8_M (SOIC, 8-Leads, Body 5x4mm, Pitch 1.27mm, IPC Low Density)
pins: 1 ~{SHUTDOWN} (in) "SHUTDOWN places the entire device in shutdown mode when held high (IDD ~ 0.6 uA).", 2 BYPASS "BYPASS is the tap to the voltage divider for internal mid-supply bias. This terminal should be connected to a 0.1-uF - 1.0-uF capacitor when used as an audio power amplifier.", 3 IN+ (in) "IN+ is the noninverting input. IN+ is typically tied to the BYPASS terminal.", 4 IN- (in) "IN- is the inverting input. IN- is typically used as the audio input terminal.", 5 VO+ (out) "SHUTDOWN places the entire device in shutdown mode when held high (IDD ~ 0.6 uA).", 6 VDD (power) "VDD is the supply voltage terminal.", 7 GND (power) "GND is the ground connection.", 8 VO- (out) "VO2 is the negative BTL output."

## TPA751DG4
designator U?
700-mW Mono, Differential Input, Class-AB Audio Amplifier with Active Low Shutdown, -40 to 85 degC, 8-pin SOIC (D8), Green (RoHS & no Sb/Br); Manufacturer: Texas Instruments; PartNumber: TPA751DG4; Output Power(W): 0.25; PSRR(dB): 85; SubFamily: Dynamic Speaker; Supply Max(Max)(Volt): 5.5; Supply Min(Min)(Volt): 2.5; DatasheetVersion: SLOS336C; PackageVersion: 4040047-3/M, 06/2011; PackageReference: D8; PackageDescription: 8-Pin Plastic Small Outline, Body 4.9 x 3.9 mm, Pitch 1.27 mm; Supplier 1: Digi-Key; Supplier Part Number 1: TPA751DG4-ND; Supplier 2: Mouser; Supplier Part Number 2: 595-TPA751DG4; Eco-Plan: Green (RoHS & no Sb/Br); Speaker Amp Type: Class-AB; Speaker Channels: Mono; Mounting Technology: Surface Mount; Code_JEDEC: MS-012; ComponentLink1Description: Manufacturer URL; ComponentLink1URL: http://www.ti.com/; ComponentLink2Description: Datasheet; ComponentLink2URL: http://www.ti.com/general/docs/lit/getliterature.tsp?genericPartNumber=TPA751&fileType=pdf; ComponentLink3Description: Package Specification; ComponentLink3URL: http://www.ti.com/litv/pdf/msoi002j
footprint TI-D8_N (SOIC, 8-Leads, Body 5x4mm, Pitch 1.27mm, IPC Medium Density)
footprint TI-D8_L (SOIC, 8-Leads, Body 5x4mm, Pitch 1.27mm, IPC High Density)
footprint TI-D8_M (SOIC, 8-Leads, Body 5x4mm, Pitch 1.27mm, IPC Low Density)
pins: 1 ~{SHUTDOWN} (in) "SHUTDOWN places the entire device in shutdown mode when held high (IDD ~ 0.6 uA).", 2 BYPASS "BYPASS is the tap to the voltage divider for internal mid-supply bias. This terminal should be connected to a 0.1-uF - 1.0-uF capacitor when used as an audio power amplifier.", 3 IN+ (in) "IN+ is the noninverting input. IN+ is typically tied to the BYPASS terminal.", 4 IN- (in) "IN- is the inverting input. IN- is typically used as the audio input terminal.", 5 VO+ (out) "SHUTDOWN places the entire device in shutdown mode when held high (IDD ~ 0.6 uA).", 6 VDD (power) "VDD is the supply voltage terminal.", 7 GND (power) "GND is the ground connection.", 8 VO- (out) "VO2 is the negative BTL output."

## TPA751DGN
designator U?
700-mW Mono, Differential Input, Class-AB Audio Amplifier with Active Low Shutdown, -40 to 85 degC, 8-pin SOP (DGN8), Green (RoHS & no Sb/Br); Manufacturer: Texas Instruments; PartNumber: TPA751DGN; Output Power(W): 0.25; PSRR(dB): 85; SubFamily: Dynamic Speaker; Supply Max(Max)(Volt): 5.5; Supply Min(Min)(Volt): 2.5; DatasheetVersion: SLOS336C; PackageVersion: 4073271/F, 05/2011; PackageReference: DGN8-1760X1425TP; PackageDescription: 8-Pin Plastic Small Outline, Body 3 x 3 mm, Pitch 0.65 mm; Supplier 1: Digi-Key; Supplier Part Number 1: 296-34565-5-ND; Supplier 2: Mouser; Supplier Part Number 2: 595-TPA751DGN; Eco-Plan: Green (RoHS & no Sb/Br); Speaker Amp Type: Class-AB; Speaker Channels: Mono; Mounting Technology: Surface Mount; Code_JEDEC: MO-187; ComponentLink1Description: Manufacturer URL; ComponentLink1URL: http://www.ti.com/; ComponentLink2Description: Datasheet; ComponentLink2URL: http://www.ti.com/general/docs/lit/getliterature.tsp?genericPartNumber=TPA751&fileType=pdf; ComponentLink3Description: Package Specification; ComponentLink3URL: http://www.ti.com/litv/pdf/mpds046e
footprint TI-DGN8-1760X1425TP_N (SOP, 8-Leads, Body 3.1x3.1mm, Pitch 0.65mm, Thermal Pad 1.89x1.57mm, IPC Medium Density)
footprint TI-DGN8-1760X1425TP_L (SOP, 8-Leads, Body 3.1x3.1mm, Pitch 0.65mm, Thermal Pad 1.89x1.57mm, IPC High Density)
footprint TI-DGN8-1760X1425TP_M (SOP, 8-Leads, Body 3.1x3.1mm, Pitch 0.65mm, Thermal Pad 1.89x1.57mm, IPC Low Density)
pins: 1 ~{SHUTDOWN} (in) "S\H\U\T\D\O\W\N\ places the entire device in shutdown mode when held low (IDD = 1.5 nA).", 2 BYPASS "BYPASS is the tap to the voltage divider for internal mid-supply bias. This terminal should be connected to a 0.1-uF to 2.2-uF capacitor when used as an audio amplifier.", 3 IN+ (in) "IN + is the noninverting input. IN + is typically tied to the BYPASS terminal for SE input.", 4 IN- (in) "IN - is the inverting input. IN - is typically used as the audio input terminal.", 5 VO+ (out) "VO+ is the positive BTL output.", 6 VDD (power) "VDD is the supply voltage terminal.", 7 GND (power) "GND is the ground connection.", 8 VO- (out) "VO- is the negative BTL output.", 9 EP

## TPA751DGNG4
designator U?
700-mW Mono, Differential Input, Class-AB Audio Amplifier with Active Low Shutdown, -40 to 85 degC, 8-pin SOP (DGN8), Green (RoHS & no Sb/Br); Manufacturer: Texas Instruments; PartNumber: TPA751DGNG4; Output Power(W): 0.25; PSRR(dB): 85; SubFamily: Dynamic Speaker; Supply Max(Max)(Volt): 5.5; Supply Min(Min)(Volt): 2.5; DatasheetVersion: SLOS336C; PackageVersion: 4073271/F, 05/2011; PackageReference: DGN8-1760X1425TP; PackageDescription: 8-Pin Plastic Small Outline, Body 3 x 3 mm, Pitch 0.65 mm; Supplier 1: Digi-Key; Supplier Part Number 1: TPA751DGNG4-ND; Supplier 2: Mouser; Supplier Part Number 2: 595-TPA751DGNG4; Eco-Plan: Green (RoHS & no Sb/Br); Speaker Amp Type: Class-AB; Speaker Channels: Mono; Mounting Technology: Surface Mount; Code_JEDEC: MO-187; ComponentLink1Description: Manufacturer URL; ComponentLink1URL: http://www.ti.com/; ComponentLink2Description: Datasheet; ComponentLink2URL: http://www.ti.com/general/docs/lit/getliterature.tsp?genericPartNumber=TPA751&fileType=pdf; ComponentLink3Description: Package Specification; ComponentLink3URL: http://www.ti.com/litv/pdf/mpds046e
footprint TI-DGN8-1760X1425TP_N (SOP, 8-Leads, Body 3.1x3.1mm, Pitch 0.65mm, Thermal Pad 1.89x1.57mm, IPC Medium Density)
footprint TI-DGN8-1760X1425TP_L (SOP, 8-Leads, Body 3.1x3.1mm, Pitch 0.65mm, Thermal Pad 1.89x1.57mm, IPC High Density)
footprint TI-DGN8-1760X1425TP_M (SOP, 8-Leads, Body 3.1x3.1mm, Pitch 0.65mm, Thermal Pad 1.89x1.57mm, IPC Low Density)
pins: 1 ~{SHUTDOWN} (in) "S\H\U\T\D\O\W\N\ places the entire device in shutdown mode when held low (IDD = 1.5 nA).", 2 BYPASS "BYPASS is the tap to the voltage divider for internal mid-supply bias. This terminal should be connected to a 0.1-uF to 2.2-uF capacitor when used as an audio amplifier.", 3 IN+ (in) "IN + is the noninverting input. IN + is typically tied to the BYPASS terminal for SE input.", 4 IN- (in) "IN - is the inverting input. IN - is typically used as the audio input terminal.", 5 VO+ (out) "VO+ is the positive BTL output.", 6 VDD (power) "VDD is the supply voltage terminal.", 7 GND (power) "GND is the ground connection.", 8 VO- (out) "VO- is the negative BTL output.", 9 EP

## TPA751DGNR
designator U?
700-mW Mono, Differential Input, Class-AB Audio Amplifier with Active Low Shutdown, -40 to 85 degC, 8-pin SOP (DGN8), Green (RoHS & no Sb/Br); Manufacturer: Texas Instruments; PartNumber: TPA751DGNR; Output Power(W): 0.25; PSRR(dB): 85; SubFamily: Dynamic Speaker; Supply Max(Max)(Volt): 5.5; Supply Min(Min)(Volt): 2.5; DatasheetVersion: SLOS336C; PackageVersion: 4073271/F, 05/2011; PackageReference: DGN8-1760X1425TP; PackageDescription: 8-Pin Plastic Small Outline, Body 3 x 3 mm, Pitch 0.65 mm; Supplier 1: Digi-Key; Supplier Part Number 1: 296-10856-2-ND; Supplier 2: Digi-Key; Supplier Part Number 2: 296-10856-1-ND; Supplier 3: Digi-Key; Supplier Part Number 3: 296-10856-6-ND; Supplier 4: Mouser; Supplier Part Number 4: 595-TPA751DGNR; Eco-Plan: Green (RoHS & no Sb/Br); Speaker Amp Type: Class-AB; Speaker Channels: Mono; Mounting Technology: Surface Mount; Code_JEDEC: MO-187; ComponentLink1Description: Manufacturer URL; ComponentLink1URL: http://www.ti.com/; ComponentLink2Description: Datasheet; ComponentLink2URL: http://www.ti.com/general/docs/lit/getliterature.tsp?genericPartNumber=TPA751&fileType=pdf; ComponentLink3Description: Package Specification; ComponentLink3URL: http://www.ti.com/litv/pdf/mpds046e
footprint TI-DGN8-1760X1425TP_N (SOP, 8-Leads, Body 3.1x3.1mm, Pitch 0.65mm, Thermal Pad 1.89x1.57mm, IPC Medium Density)
footprint TI-DGN8-1760X1425TP_L (SOP, 8-Leads, Body 3.1x3.1mm, Pitch 0.65mm, Thermal Pad 1.89x1.57mm, IPC High Density)
footprint TI-DGN8-1760X1425TP_M (SOP, 8-Leads, Body 3.1x3.1mm, Pitch 0.65mm, Thermal Pad 1.89x1.57mm, IPC Low Density)
pins: 1 ~{SHUTDOWN} (in) "S\H\U\T\D\O\W\N\ places the entire device in shutdown mode when held low (IDD = 1.5 nA).", 2 BYPASS "BYPASS is the tap to the voltage divider for internal mid-supply bias. This terminal should be connected to a 0.1-uF to 2.2-uF capacitor when used as an audio amplifier.", 3 IN+ (in) "IN + is the noninverting input. IN + is typically tied to the BYPASS terminal for SE input.", 4 IN- (in) "IN - is the inverting input. IN - is typically used as the audio input terminal.", 5 VO+ (out) "VO+ is the positive BTL output.", 6 VDD (power) "VDD is the supply voltage terminal.", 7 GND (power) "GND is the ground connection.", 8 VO- (out) "VO- is the negative BTL output.", 9 EP

## TPA751DGNRG4
designator U?
700-mW Mono, Differential Input, Class-AB Audio Amplifier with Active Low Shutdown, -40 to 85 degC, 8-pin SOP (DGN8), Green (RoHS & no Sb/Br); Manufacturer: Texas Instruments; PartNumber: TPA751DGNRG4; Output Power(W): 0.25; PSRR(dB): 85; SubFamily: Dynamic Speaker; Supply Max(Max)(Volt): 5.5; Supply Min(Min)(Volt): 2.5; DatasheetVersion: SLOS336C; PackageVersion: 4073271/F, 05/2011; PackageReference: DGN8-1760X1425TP; PackageDescription: 8-Pin Plastic Small Outline, Body 3 x 3 mm, Pitch 0.65 mm; Supplier 1: Digi-Key; Supplier Part Number 1: TPA751DGNRG4-ND; Supplier 2: Mouser; Supplier Part Number 2: 595-TPA751DGNRG4; Eco-Plan: Green (RoHS & no Sb/Br); Speaker Amp Type: Class-AB; Speaker Channels: Mono; Mounting Technology: Surface Mount; Code_JEDEC: MO-187; ComponentLink1Description: Manufacturer URL; ComponentLink1URL: http://www.ti.com/; ComponentLink2Description: Datasheet; ComponentLink2URL: http://www.ti.com/general/docs/lit/getliterature.tsp?genericPartNumber=TPA751&fileType=pdf; ComponentLink3Description: Package Specification; ComponentLink3URL: http://www.ti.com/litv/pdf/mpds046e
footprint TI-DGN8-1760X1425TP_N (SOP, 8-Leads, Body 3.1x3.1mm, Pitch 0.65mm, Thermal Pad 1.89x1.57mm, IPC Medium Density)
footprint TI-DGN8-1760X1425TP_L (SOP, 8-Leads, Body 3.1x3.1mm, Pitch 0.65mm, Thermal Pad 1.89x1.57mm, IPC High Density)
footprint TI-DGN8-1760X1425TP_M (SOP, 8-Leads, Body 3.1x3.1mm, Pitch 0.65mm, Thermal Pad 1.89x1.57mm, IPC Low Density)
pins: 1 ~{SHUTDOWN} (in) "S\H\U\T\D\O\W\N\ places the entire device in shutdown mode when held low (IDD = 1.5 nA).", 2 BYPASS "BYPASS is the tap to the voltage divider for internal mid-supply bias. This terminal should be connected to a 0.1-uF to 2.2-uF capacitor when used as an audio amplifier.", 3 IN+ (in) "IN + is the noninverting input. IN + is typically tied to the BYPASS terminal for SE input.", 4 IN- (in) "IN - is the inverting input. IN - is typically used as the audio input terminal.", 5 VO+ (out) "VO+ is the positive BTL output.", 6 VDD (power) "VDD is the supply voltage terminal.", 7 GND (power) "GND is the ground connection.", 8 VO- (out) "VO- is the negative BTL output.", 9 EP

## TPA751DR
designator U?
700-mW Mono, Differential Input, Class-AB Audio Amplifier with Active Low Shutdown, -40 to 85 degC, 8-pin SOIC (D8), Green (RoHS & no Sb/Br); Manufacturer: Texas Instruments; PartNumber: TPA751DR; Output Power(W): 0.25; PSRR(dB): 85; SubFamily: Dynamic Speaker; Supply Max(Max)(Volt): 5.5; Supply Min(Min)(Volt): 2.5; DatasheetVersion: SLOS336C; PackageVersion: 4040047-3/M, 06/2011; PackageReference: D8; PackageDescription: 8-Pin Plastic Small Outline, Body 4.9 x 3.9 mm, Pitch 1.27 mm; Supplier 1: Digi-Key; Supplier Part Number 1: TPA751DR-ND; Supplier 2: Mouser; Supplier Part Number 2: 595-TPA751DR; Eco-Plan: Green (RoHS & no Sb/Br); Speaker Amp Type: Class-AB; Speaker Channels: Mono; Mounting Technology: Surface Mount; Code_JEDEC: MS-012; ComponentLink1Description: Manufacturer URL; ComponentLink1URL: http://www.ti.com/; ComponentLink2Description: Datasheet; ComponentLink2URL: http://www.ti.com/general/docs/lit/getliterature.tsp?genericPartNumber=TPA751&fileType=pdf; ComponentLink3Description: Package Specification; ComponentLink3URL: http://www.ti.com/litv/pdf/msoi002j
footprint TI-D8_N (SOIC, 8-Leads, Body 5x4mm, Pitch 1.27mm, IPC Medium Density)
footprint TI-D8_L (SOIC, 8-Leads, Body 5x4mm, Pitch 1.27mm, IPC High Density)
footprint TI-D8_M (SOIC, 8-Leads, Body 5x4mm, Pitch 1.27mm, IPC Low Density)
pins: 1 ~{SHUTDOWN} (in) "SHUTDOWN places the entire device in shutdown mode when held high (IDD ~ 0.6 uA).", 2 BYPASS "BYPASS is the tap to the voltage divider for internal mid-supply bias. This terminal should be connected to a 0.1-uF - 1.0-uF capacitor when used as an audio power amplifier.", 3 IN+ (in) "IN+ is the noninverting input. IN+ is typically tied to the BYPASS terminal.", 4 IN- (in) "IN- is the inverting input. IN- is typically used as the audio input terminal.", 5 VO+ (out) "SHUTDOWN places the entire device in shutdown mode when held high (IDD ~ 0.6 uA).", 6 VDD (power) "VDD is the supply voltage terminal.", 7 GND (power) "GND is the ground connection.", 8 VO- (out) "VO2 is the negative BTL output."

## TPA751DRG4
designator U?
700-mW Mono, Differential Input, Class-AB Audio Amplifier with Active Low Shutdown, -40 to 85 degC, 8-pin SOIC (D8), Green (RoHS & no Sb/Br); Manufacturer: Texas Instruments; PartNumber: TPA751DRG4; Output Power(W): 0.25; PSRR(dB): 85; SubFamily: Dynamic Speaker; Supply Max(Max)(Volt): 5.5; Supply Min(Min)(Volt): 2.5; DatasheetVersion: SLOS336C; PackageVersion: 4040047-3/M, 06/2011; PackageReference: D8; PackageDescription: 8-Pin Plastic Small Outline, Body 4.9 x 3.9 mm, Pitch 1.27 mm; Supplier 1: Digi-Key; Supplier Part Number 1: TPA751DRG4-ND; Supplier 2: Mouser; Supplier Part Number 2: 595-TPA751DRG4; Eco-Plan: Green (RoHS & no Sb/Br); Speaker Amp Type: Class-AB; Speaker Channels: Mono; Mounting Technology: Surface Mount; Code_JEDEC: MS-012; ComponentLink1Description: Manufacturer URL; ComponentLink1URL: http://www.ti.com/; ComponentLink2Description: Datasheet; ComponentLink2URL: http://www.ti.com/general/docs/lit/getliterature.tsp?genericPartNumber=TPA751&fileType=pdf; ComponentLink3Description: Package Specification; ComponentLink3URL: http://www.ti.com/litv/pdf/msoi002j
footprint TI-D8_N (SOIC, 8-Leads, Body 5x4mm, Pitch 1.27mm, IPC Medium Density)
footprint TI-D8_L (SOIC, 8-Leads, Body 5x4mm, Pitch 1.27mm, IPC High Density)
footprint TI-D8_M (SOIC, 8-Leads, Body 5x4mm, Pitch 1.27mm, IPC Low Density)
pins: 1 ~{SHUTDOWN} (in) "SHUTDOWN places the entire device in shutdown mode when held high (IDD ~ 0.6 uA).", 2 BYPASS "BYPASS is the tap to the voltage divider for internal mid-supply bias. This terminal should be connected to a 0.1-uF - 1.0-uF capacitor when used as an audio power amplifier.", 3 IN+ (in) "IN+ is the noninverting input. IN+ is typically tied to the BYPASS terminal.", 4 IN- (in) "IN- is the inverting input. IN- is typically used as the audio input terminal.", 5 VO+ (out) "SHUTDOWN places the entire device in shutdown mode when held high (IDD ~ 0.6 uA).", 6 VDD (power) "VDD is the supply voltage terminal.", 7 GND (power) "GND is the ground connection.", 8 VO- (out) "VO2 is the negative BTL output."